# EAGLE library part TPS61090RSA (library custom)
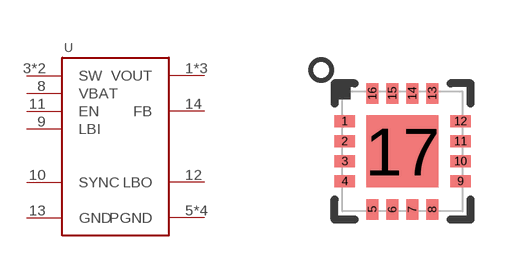
[diagram p4: symbol with the pads of VQFN16; footprint VQFN16]

Designator prefix -

## TPS61090RSA  [VQFN16]
1  VOUT  pwr
3  SW
4  SW
5  PGND
6  PGND
7  PGND
8  VBAT
9  LBI
10  SYNC
11  EN
12  LBO
13  GND  pwr
14  FB
15  VOUT  pwr
16  VOUT  pwr
17  PGND

## Footprint VQFN16 (pad centres in mm)
VQFN16 body 3 x 3 x 0.85 mm
smd 0.52 x 0.3: 1 -1.45,0.75; 2 -1.45,0.25; 3 -1.45,-0.25; 4 -1.45,-0.75; 9 1.45,-0.75; 10 1.45,-0.25; 11 1.45,0.25; 12 1.45,0.75
smd 0.3 x 0.52: 5 -0.75,-1.45; 6 -0.25,-1.45; 7 0.25,-1.45; 8 0.75,-1.45; 13 0.75,1.45; 14 0.25,1.45; 15 -0.25,1.45; 16 -0.75,1.45
smd 1.8 x 1.8: 17 0,0